# EAGLE library part 32_U4_CRZADE (library core zade)
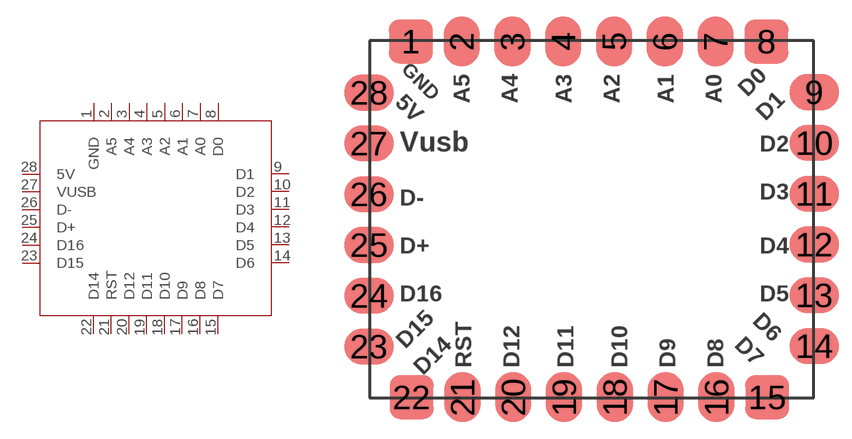
[diagram p0: symbol with the pads of 32U4_BACKORDER_ZADE; footprint 32U4_BACKORDER_ZADE]

Designator prefix -

## 32_U4_CRZADE  [32U4_BACKORDER_ZADE]
1  GND
2  A5
3  A4
4  A3
5  A2
6  A1
7  A0
8  D0
9  D1
10  D2
11  D3
12  D4
13  D5
14  D6
15  D7
16  D8
17  D9
18  D10
19  D11
20  D12
21  RST
22  D14
23  D15
24  D16
25  D+
26  D-
27  VUSB
28  5V

## Footprint 32U4_BACKORDER_ZADE (pad centres in mm)
smd 2.21 x 2.21: 1 -0.04,12.72; 8 17.74,12.72; 15 17.78,-5.08; 22 0,-5.08
smd 1.803 x 2.489: 2 2.5,12.72; 3 5.04,12.72; 4 7.58,12.72; 5 10.12,12.72; 6 12.66,12.72; 7 15.2,12.72; 16 15.24,-5.08; 17 12.7,-5.08; 18 10.16,-5.08; 19 7.62,-5.08; 20 5.08,-5.08; 21 2.54,-5.08
smd 2.489 x 1.803: 9 20.133,10.185; 10 20.133,7.645; 11 20.133,5.105; 12 20.133,2.565; 13 20.133,0.025; 14 20.133,-2.515; 23 -2.13,-2.54; 24 -2.13,0; 25 -2.13,2.54; 26 -2.13,5.08; 27 -2.13,7.62; 28 -2.13,10.16